# Altium schematic symbol library R2.SCHLIB: 17 symbols
Pins are listed as number, name and electrical type; pins without a type are passive.

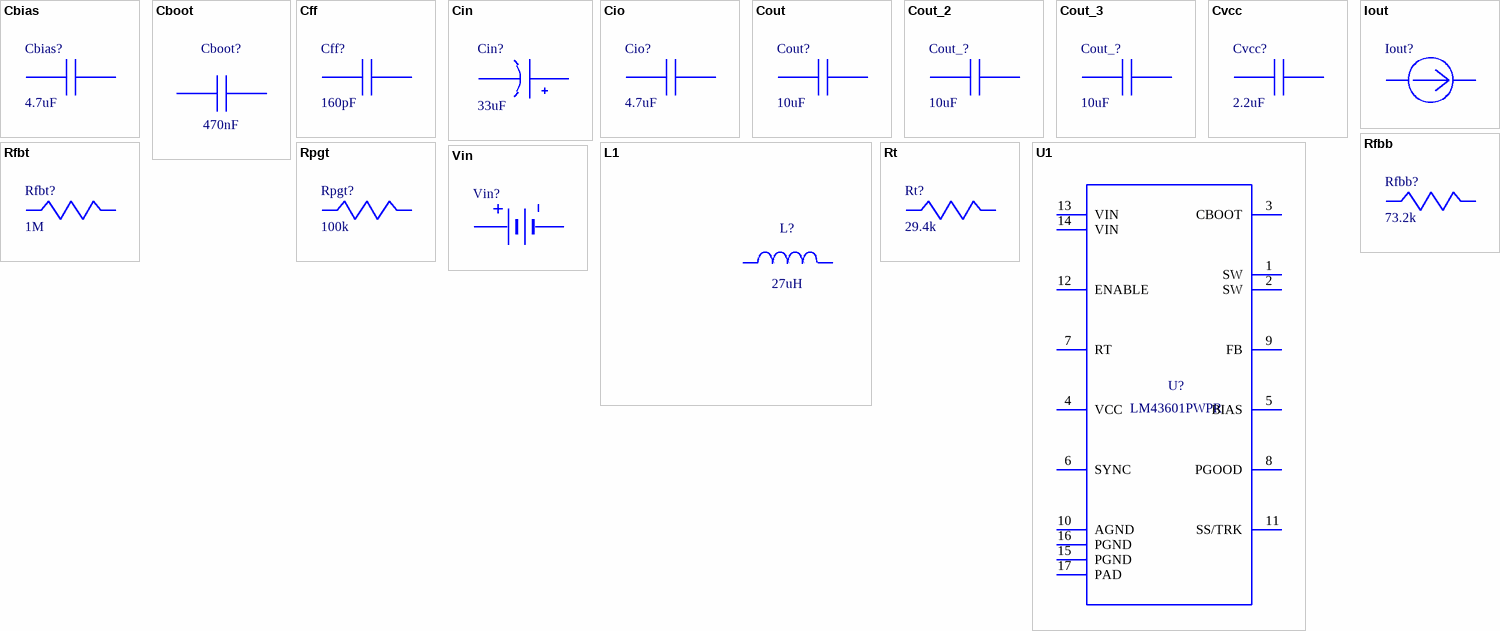
[diagram p0: symbols Cbias to Vin]

## Cbias
designator Cbias?, comment value 4.7uF  (hidden comment: TMK212BJ475KG-T)
Manufacturer Name: Taiyo Yuden; PackageReference: TMK212BJ475KG-T; Manufacturer Part Number: TMK212BJ475KG-T
pins: 1, 2

## Cboot
designator Cboot?, comment value 470nF  (hidden comment: GRM155R60J474KE19D)
GRM155R60J474KE1; Manufacturer Name: MuRata; PackageReference: GRM155R60J474KE19D; Manufacturer Part Number: GRM155R60J474KE19D
pins: 1, 2

## Cff
designator Cff?, comment value 160pF  (hidden comment: GRM1555C1H161JA01D)
GRM1555C1H161JA0; Manufacturer Name: MuRata; PackageReference: GRM1555C1H161JA01D; Manufacturer Part Number: GRM1555C1H161JA01D
pins: 1, 2

## Cin
designator Cin?, comment value 33uF  (hidden comment: EEE-FK1A330UR)
Manufacturer Name: Panasonic; PackageReference: EEE-FK1A330UR; Manufacturer Part Number: EEE-FK1A330UR
pins: 1 +, 2 -

## Cio
designator Cio?, comment value 4.7uF  (hidden comment: C1608X5R1V475K080AC)
C1608X5R1V475K08; Manufacturer Name: TDK; PackageReference: C1608X5R1V475K080AC; Manufacturer Part Number: C1608X5R1V475K080AC
pins: 1, 2

## Cout
designator Cout?, comment value 10uF  (hidden comment: CL32B106KBJNNWE)
Manufacturer Name: Samsung Electro-Mechanics; PackageReference: CL32B106KBJNNWE; Manufacturer Part Number: CL32B106KBJNNWE
pins: 1, 2

## Cout_2
designator Cout_?, comment value 10uF  (hidden comment: CL32B106KBJNNWE)
Manufacturer Name: Samsung Electro-Mechanics; PackageReference: CL32B106KBJNNWE; Manufacturer Part Number: CL32B106KBJNNWE
pins: 1, 2

## Cout_3
designator Cout_?, comment value 10uF  (hidden comment: CL32B106KBJNNWE)
Manufacturer Name: Samsung Electro-Mechanics; PackageReference: CL32B106KBJNNWE; Manufacturer Part Number: CL32B106KBJNNWE
pins: 1, 2

## Cvcc
designator Cvcc?, comment value 2.2uF  (hidden comment: EMK212BJ225KG-T)
Manufacturer Name: Taiyo Yuden; PackageReference: EMK212BJ225KG-T; Manufacturer Part Number: EMK212BJ225KG-T
pins: 1, 2

## Iout
designator Iout?, comment WB_CURRENT_LOAD  (value not drawn)
PackageReference: WB_CURRENT_LOAD; Manufacturer Part Number: WB_CURRENT_LOAD; Manufacturer Name: WB_CURRENT_LOAD; Value: N/A
pins: 1 +, 2 -

## L1
designator L?, comment value 27uH  (hidden comment: ME3220-273KLB)
Manufacturer Name: Coilcraft; PackageReference: ME3220-273KLB; Manufacturer Part Number: ME3220-273KLB
pins: 1, 2

## Rfbb
designator Rfbb?, comment value 73.2k  (hidden comment: CRCW040273K2FKED)
Manufacturer Name: Vishay-Dale; PackageReference: CRCW040273K2FKED; Manufacturer Part Number: CRCW040273K2FKED
pins: 1, 2

## Rfbt
designator Rfbt?, comment value 1M  (hidden comment: CRCW04021M00FKED)
Manufacturer Name: Vishay-Dale; PackageReference: CRCW04021M00FKED; Manufacturer Part Number: CRCW04021M00FKED
pins: 1, 2

## Rpgt
designator Rpgt?, comment value 100k  (hidden comment: CRCW0402100KFKED)
Manufacturer Name: Vishay-Dale; PackageReference: CRCW0402100KFKED; Manufacturer Part Number: CRCW0402100KFKED
pins: 1, 2

## Rt
designator Rt?, comment value 29.4k  (hidden comment: CRCW040229K4FKED)
Manufacturer Name: Vishay-Dale; PackageReference: CRCW040229K4FKED; Manufacturer Part Number: CRCW040229K4FKED
pins: 1, 2

## U1
designator U?, comment LM43603PWPR  (value not drawn)
LM43601PWPR; Manufacturer Name: Texas Instruments; Manufacturer Part Number: LM43603PWPR; Value: N/A; PackageReference: LM43601PWPR
pins: 1 SW, 2 SW, 3 CBOOT, 4 VCC, 5 BIAS, 6 SYNC, 7 RT, 8 PGOOD, 9 FB, 10 AGND, 11 SS/TRK, 12 ENABLE, 13 VIN, 14 VIN, 15 PGND, 16 PGND, 17 PAD

## Vin
designator Vin?, comment WB_BATTERY  (value not drawn)
PackageReference: WB_BATTERY; Manufacturer Part Number: WB_BATTERY; Manufacturer Name: WB_BATTERY; Value: N/A
pins: 1 +, 2 -